# EAGLE library part 74*640 (library 74ttlDIN)
Octal bus TRANSCEIVER 3-state
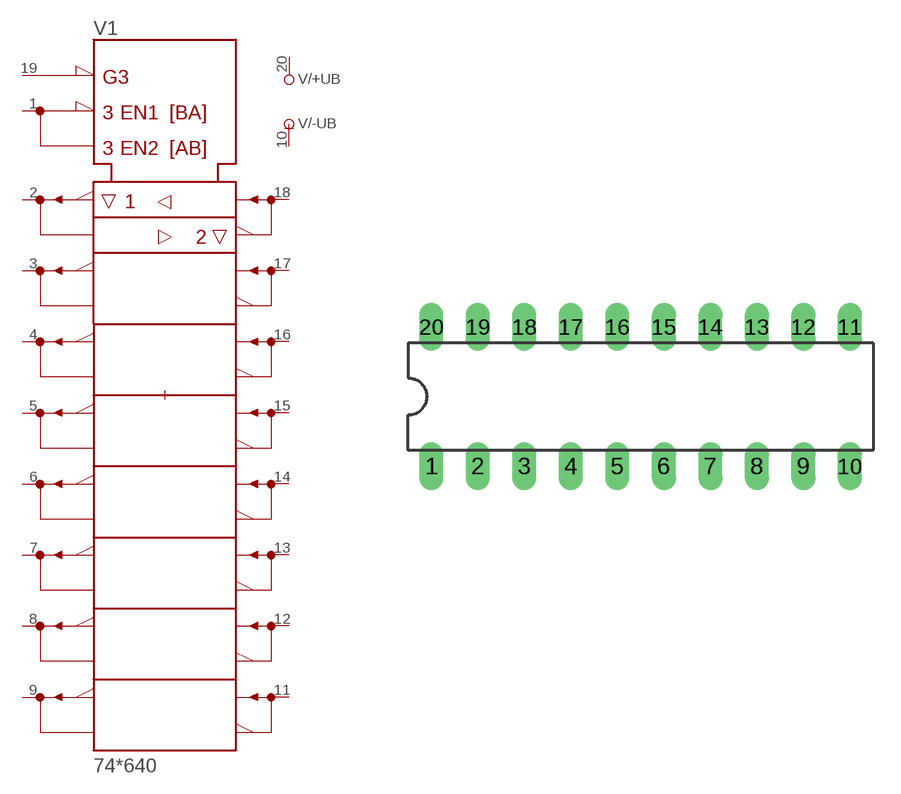
[diagram p130: symbol with the pads of DIL20; footprint DIL20]

Designator prefix V; gates /+UB=+UB /-UB=-UB 1=640

## 74640N  [DIL20]
1  1:DIR  in
2  1:A1
3  1:A2
4  1:A3
5  1:A4
6  1:A5
7  1:A6
8  1:A7
9  1:A8
10  /-UB:-UB  pwr
11  1:B8
12  1:B7
13  1:B6
14  1:B5
15  1:B4
16  1:B3
17  1:B2
18  1:B1
19  1:!G  in
20  /+UB:+UB  pwr

## Footprint DIL20 (pad centres in mm)
Dual In Line Package
drill 0.813 long: 1 -11.43,-3.81; 2 -8.89,-3.81; 3 -6.35,-3.81; 4 -3.81,-3.81; 5 -1.27,-3.81; 6 1.27,-3.81; 7 3.81,-3.81; 8 6.35,-3.81; 9 8.89,-3.81; 10 11.43,-3.81; 11 11.43,3.81; 12 8.89,3.81; 13 6.35,3.81; 14 3.81,3.81; 15 1.27,3.81; 16 -1.27,3.81; 17 -3.81,3.81; 18 -6.35,3.81; 19 -8.89,3.81; 20 -11.43,3.81